# EAGLE library part HEADER-1X25 (library Header and Connector)
Header 1x25
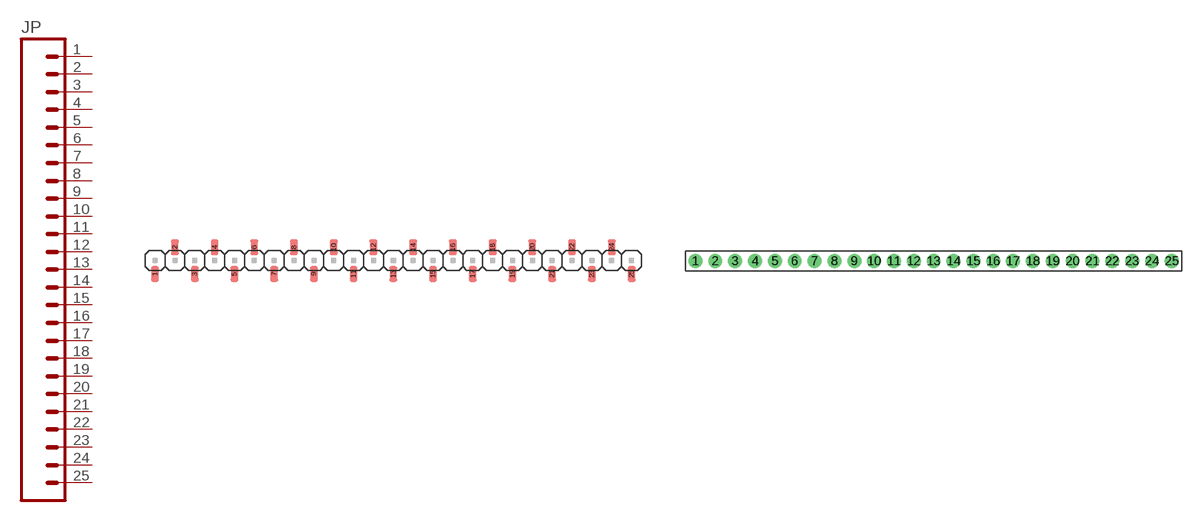
[diagram p45: symbol with the pads of S-HDR-M1X25; footprints S-HDR-M1X25, HDR-F1X25]

Designator prefix JP

## HEADER-1X25_(SMD-MALE) (CYTRON-PC: S-CN-PH-M125S; DESC: SMD Straight Male Header 1x25 Ways; VALUE: 25/40 Ways)  [S-HDR-M1X25]
1  1  pas
2  2  pas
3  3  pas
4  4  pas
5  5  pas
6  6  pas
7  7  pas
8  8  pas
9  9  pas
10  10  pas
11  11  pas
12  12  pas
13  13  pas
14  14  pas
15  15  pas
16  16  pas
17  17  pas
18  18  pas
19  19  pas
20  20  pas
21  21  pas
22  22  pas
23  23  pas
24  24  pas
25  25  pas

## HEADER-1X25_(FEMALE-TH) (CYTRON-PC: S-CN-PH-M125S; DESC: SMD Straight Male Header 1x25 Ways; VALUE: 25/40 Ways)  [HDR-F1X25]
Pads as for S-HDR-M1X25

## Footprint S-HDR-M1X25 (pad centres in mm)
SMD Male Header 1x25
smd 1 x 2: 1 -30.48,-1.7; 2 -27.94,1.7; 3 -25.4,-1.7; 4 -22.86,1.7; 5 -20.32,-1.7; 6 -17.78,1.7; 7 -15.24,-1.7; 8 -12.7,1.7; 9 -10.16,-1.7; 10 -7.62,1.7; 11 -5.08,-1.7; 12 -2.54,1.7; 13 0,-1.7; 14 2.54,1.7; 15 5.08,-1.7; 16 7.62,1.7; 17 10.16,-1.7; 18 12.7,1.7; 19 15.24,-1.7; 20 17.78,1.7; 21 20.32,-1.7; 22 22.86,1.7; 23 25.4,-1.7; 24 27.94,1.7; 25 30.48,-1.7

## Footprint HDR-F1X25 (pad centres in mm)
drill 1.016 pad 1.778: 1 0,0; 2 2.54,0; 3 5.08,0; 4 7.62,0; 5 10.16,0; 6 12.7,0; 7 15.24,0; 8 17.78,0; 9 20.32,0; 10 22.86,0; 11 25.4,0; 12 27.94,0; 13 30.48,0; 14 33.02,0; 15 35.56,0; 16 38.1,0; 17 40.64,0; 18 43.18,0; 19 45.72,0; 20 48.26,0; 21 50.8,0; 22 53.34,0; 23 55.88,0; 24 58.42,0; 25 60.96,0